# EAGLE library part ADP5589 (library nightcapaudio)
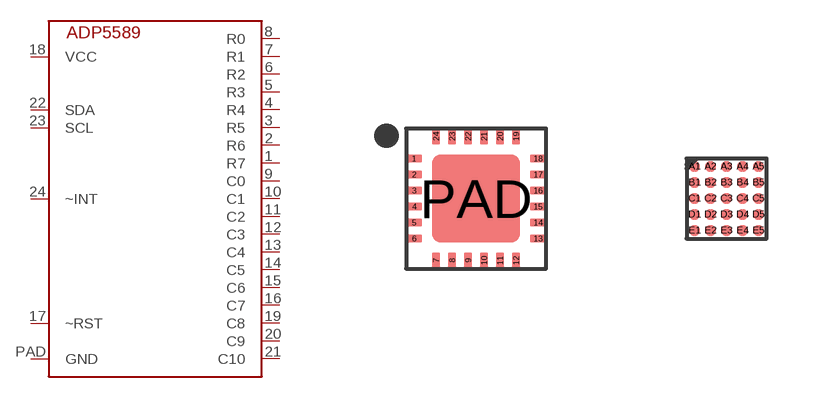
[diagram p2: symbol with the pads of 24-LFCSP; footprints 24-LFCSP, WLCSP-25]

Designator prefix -

## ADP5589LFCSP(QFN)  [24-LFCSP]
1  R7
2  R6
3  R5
4  R4
5  R3
6  R2
7  R1
8  R0
9  C0
10  C1
11  C2
12  C3
13  C4
14  C5
15  C6
16  C7
17  ~RST
18  VCC
19  C8
20  C9
21  C10
22  SDA
23  SCL
24  ~INT
PAD  GND

## ADP5589WLCSP(BGA)  [WLCSP-25]
A1  VCC
A2  SDA
A3  SCL
A4  GND
A5  C10
B1  R0
B2  ~INT
B3  ~RST
B4  C0
B5  C9
C1  R2
C2  R1
C3  C1
C4  C2
C5  C8
D1  R4
D2  R3
D3  C3
D4  C4
D5  C7
E1  R5
E2  R6
E3  R7
E4  C5
E5  C6

## Footprint 24-LFCSP (pad centres in mm)
smd 0.4 x 0.2: 1 -1.55,1; 2 -1.55,0.6; 3 -1.55,0.2; 4 -1.55,-0.2; 5 -1.55,-0.6; 6 -1.55,-1; 13 1.55,-1; 14 1.55,-0.6; 15 1.55,-0.2; 16 1.55,0.2; 17 1.55,0.6; 18 1.55,1
smd 0.2 x 0.4: 7 -1,-1.55; 8 -0.6,-1.55; 9 -0.2,-1.55; 10 0.2,-1.55; 11 0.6,-1.55; 12 1,-1.55; 19 1,1.55; 20 0.6,1.55; 21 0.2,1.55; 22 -0.2,1.55; 23 -0.6,1.55; 24 -1,1.55
smd 2.2 x 2.2: PAD 0,0

## Footprint WLCSP-25 (pad centres in mm)
smd 0.26 x 0.26: A1 -0.8,0.8; A2 -0.4,0.8; A3 0,0.8; A4 0.4,0.8; A5 0.8,0.8; B1 -0.8,0.4; B2 -0.4,0.4; B3 0,0.4; B4 0.4,0.4; B5 0.8,0.4; C1 -0.8,0; C2 -0.4,0; C3 0,0; C4 0.4,0; C5 0.8,0; D1 -0.8,-0.4; D2 -0.4,-0.4; D3 0,-0.4; D4 0.4,-0.4; D5 0.8,-0.4; E1 -0.8,-0.8; E2 -0.4,-0.8; E3 0,-0.8; E4 0.4,-0.8; E5 0.8,-0.8